# Altium footprint library atmel.PCBLIB: 60 footprints (part 3 of 4)
Each footprint in its own frame and in the unit in brackets; x right, y up, seen from the top. Pads: shape width x height; smd on the part's side, far side on the other; paste and mask are expansions set on the pad; w line width, h text height; cw(c..) or ccw(c..) is an arc to the next point about the centre after c.
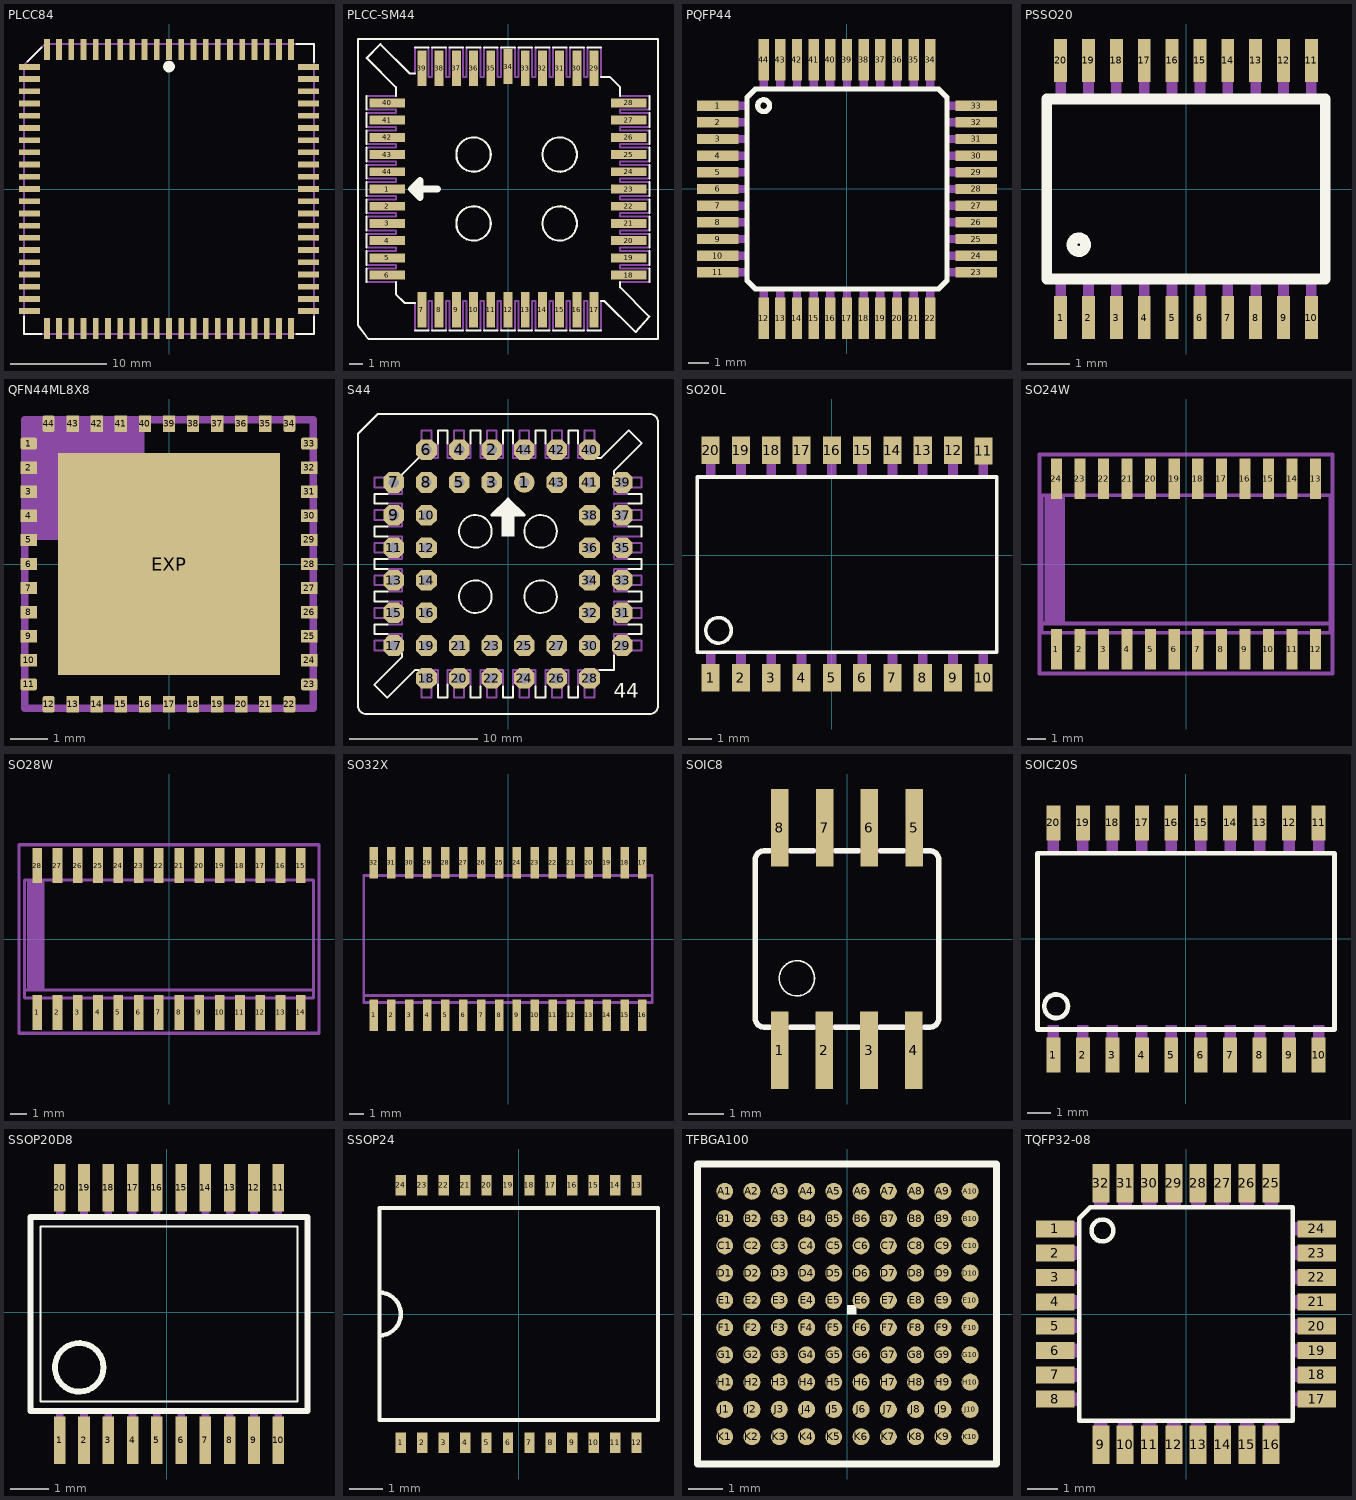
[diagram p2: the footprints below, top view; thin cyan lines are the x and y axes]

## PLCC84 [mm]
pads (84):
  rect 0.6x2.2 smd: 1(0,14.5) 2(-1.27,14.5) 3(-2.54,14.5) 4(-3.81,14.5) 5(-5.08,14.5) 6(-6.35,14.5) 7(-7.62,14.5) 8(-8.89,14.5) 9(-10.16,14.5) 10(-11.43,14.5) 11(-12.7,14.5) 33(-12.7,-14.5) 34(-11.43,-14.5) 35(-10.16,-14.5) 36(-8.89,-14.5) 37(-7.62,-14.5) 38(-6.35,-14.5) 39(-5.08,-14.5) 40(-3.81,-14.5) 41(-2.54,-14.5) 42(-1.27,-14.5) 43(0,-14.5) 44(1.27,-14.5) 45(2.54,-14.5) 46(3.81,-14.5) 47(5.08,-14.5) 48(6.35,-14.5) 49(7.62,-14.5) 50(8.89,-14.5) 51(10.16,-14.5) 52(11.43,-14.5) 53(12.7,-14.5) 75(12.7,14.5) 76(11.43,14.5) 77(10.16,14.5) 78(8.89,14.5) 79(7.62,14.5) 80(6.35,14.5) 81(5.08,14.5) 82(3.81,14.5) 83(2.54,14.5) 84(1.27,14.5)
  rect 2.2x0.6 smd: 12(-14.5,12.7) 13(-14.5,11.43) 14(-14.5,10.16) 15(-14.5,8.89) 16(-14.5,7.62) 17(-14.5,6.35) 18(-14.5,5.08) 19(-14.5,3.81) 20(-14.5,2.54) 21(-14.5,1.27) 22(-14.5,0) 23(-14.5,-1.27) 24(-14.5,-2.54) 25(-14.5,-3.81) 26(-14.5,-5.08) 27(-14.5,-6.35) 28(-14.5,-7.62) 29(-14.5,-8.89) 30(-14.5,-10.16) 31(-14.5,-11.43) 32(-14.5,-12.7) 54(14.5,-12.7) 55(14.5,-11.43) 56(14.5,-10.16) 57(14.5,-8.89) 58(14.5,-7.62) 59(14.5,-6.35) 60(14.5,-5.08) 61(14.5,-3.81) 62(14.5,-2.54) 63(14.5,-1.27) 64(14.5,0) 65(14.5,1.27) 66(14.5,2.54) 67(14.5,3.81) 68(14.5,5.08) 69(14.5,6.35) 70(14.5,7.62) 71(14.5,8.89) 72(14.5,10.16) 73(14.5,11.43) 74(14.5,12.7)
Top Overlay:
  circle w0.61: c0,12.73 r0.3
  lines w0.203: -15.088,-13.233 -15.088,-15.088 -13.259,-15.088 ; -14.732,13.233 -13.233,14.732 ; 13.233,-15.088 15.088,-15.088 15.088,-13.233 ; 13.233,15.088 15.088,15.088 15.088,13.208
Mechanical 16:
  rectangle: -0.26,15.15 0.26,15.6
  rectangle: -1.53,15.15 -1.01,15.6
  rectangle: -2.8,15.15 -2.28,15.6
  rectangle: -4.07,15.15 -3.55,15.6
  rectangle: -5.34,15.15 -4.82,15.6
  rectangle: -6.61,15.15 -6.09,15.6
  rectangle: -7.88,15.15 -7.36,15.6
  rectangle: -9.15,15.15 -8.63,15.6
  rectangle: -10.42,15.15 -9.9,15.6
  rectangle: -11.69,15.15 -11.17,15.6
  rectangle: -12.96,15.15 -12.44,15.6
  rectangle: -15.6,12.44 -15.15,12.96
  rectangle: -15.6,11.17 -15.15,11.69
  rectangle: -15.6,9.9 -15.15,10.42
  rectangle: -15.6,8.63 -15.15,9.15
  rectangle: -15.6,7.36 -15.15,7.88
  rectangle: -15.6,6.09 -15.15,6.61
  rectangle: -15.6,4.82 -15.15,5.34
  rectangle: -15.6,3.55 -15.15,4.07
  rectangle: -15.6,2.28 -15.15,2.8
  rectangle: -15.6,1.01 -15.15,1.53
  rectangle: -15.6,-0.26 -15.15,0.26
  rectangle: -15.6,-1.53 -15.15,-1.01
  rectangle: -15.6,-2.8 -15.15,-2.28
  rectangle: -15.6,-4.07 -15.15,-3.55
  rectangle: -15.6,-5.34 -15.15,-4.82
  rectangle: -15.6,-6.61 -15.15,-6.09
  rectangle: -15.6,-7.88 -15.15,-7.36
  rectangle: -15.6,-9.15 -15.15,-8.63
  rectangle: -15.6,-10.42 -15.15,-9.9
  rectangle: -15.6,-11.69 -15.15,-11.17
  rectangle: -15.6,-12.96 -15.15,-12.44
  rectangle: -12.96,-15.6 -12.44,-15.15
  rectangle: -11.69,-15.6 -11.17,-15.15
  rectangle: -10.42,-15.6 -9.9,-15.15
  rectangle: -9.15,-15.6 -8.63,-15.15
  rectangle: -7.88,-15.6 -7.36,-15.15
  rectangle: -6.61,-15.6 -6.09,-15.15
  rectangle: -5.34,-15.6 -4.82,-15.15
  rectangle: -4.07,-15.6 -3.55,-15.15
  rectangle: -2.8,-15.6 -2.28,-15.15
  rectangle: -1.53,-15.6 -1.01,-15.15
  rectangle: -0.26,-15.6 0.26,-15.15
  rectangle: 1.01,-15.6 1.53,-15.15
  rectangle: 2.28,-15.6 2.8,-15.15
  rectangle: 3.55,-15.6 4.07,-15.15
  rectangle: 4.82,-15.6 5.34,-15.15
  rectangle: 6.09,-15.6 6.61,-15.15
  rectangle: 7.36,-15.6 7.88,-15.15
  rectangle: 8.63,-15.6 9.15,-15.15
  rectangle: 9.9,-15.6 10.42,-15.15
  rectangle: 11.17,-15.6 11.69,-15.15
  rectangle: 12.44,-15.6 12.96,-15.15
  rectangle: 15.15,-12.96 15.6,-12.44
  rectangle: 15.15,-11.69 15.6,-11.17
  rectangle: 15.15,-10.42 15.6,-9.9
  rectangle: 15.15,-9.15 15.6,-8.63
  rectangle: 15.15,-7.88 15.6,-7.36
  rectangle: 15.15,-6.61 15.6,-6.09
  rectangle: 15.15,-5.34 15.6,-4.82
  rectangle: 15.15,-4.07 15.6,-3.55
  rectangle: 15.15,-2.8 15.6,-2.28
  rectangle: 15.15,-1.53 15.6,-1.01
  rectangle: 15.15,-0.26 15.6,0.26
  rectangle: 15.15,1.01 15.6,1.53
  rectangle: 15.15,2.28 15.6,2.8
  rectangle: 15.15,3.55 15.6,4.07
  rectangle: 15.15,4.82 15.6,5.34
  rectangle: 15.15,6.09 15.6,6.61
  rectangle: 15.15,7.36 15.6,7.88
  rectangle: 15.15,8.63 15.6,9.15
  rectangle: 15.15,9.9 15.6,10.42
  rectangle: 15.15,11.17 15.6,11.69
  rectangle: 15.15,12.44 15.6,12.96
  rectangle: 12.44,15.15 12.96,15.6
  rectangle: 11.17,15.15 11.69,15.6
  rectangle: 9.9,15.15 10.42,15.6
  rectangle: 8.63,15.15 9.15,15.6
  rectangle: 7.36,15.15 7.88,15.6
  rectangle: 6.09,15.15 6.61,15.6
  rectangle: 4.82,15.15 5.34,15.6
  rectangle: 3.55,15.15 4.07,15.6
  rectangle: 2.28,15.15 2.8,15.6
  rectangle: 1.01,15.15 1.53,15.6
  lines w0.203: -15.1,-15.1 -15.1,12.865 -12.865,15.1 15.1,15.1 15.1,-15.1 -15.1,-15.1

## PLCC-SM44 [mil]
pads (44):
  rect 102x26 smd: 1(-350,0) 2(-350,-50) 3(-350,-100) 4(-350,-150) 5(-350,-200) 6(-350,-250) 18(350,-250) 19(350,-200) 20(350,-150) 21(350,-100) 22(350,-50) 23(350,0) 24(350,50) 25(350,100) 26(350,150) 27(350,200) 28(350,250) 40(-350,250) 41(-350,200) 42(-350,150) 43(-350,100) 44(-350,50)
  rect 26x102 smd: 7(-250,-350) 8(-200,-350) 9(-150,-350) 10(-100,-350) 11(-50,-350) 12(0,-350) 13(50,-350) 14(100,-350) 15(150,-350) 16(200,-350) 17(250,-350) 29(250,350) 30(200,350) 31(150,350) 32(100,350) 33(50,350) 34(0,355) 35(-50,350) 36(-100,350) 37(-150,350) 38(-200,350) 39(-250,350)
Top Overlay:
  circle w6: c-100,-100 r50
  circle w6: c-100,100 r50
  circle w6: c150,-100 r50
  circle w6: c150,100 r50
  lines w6: -410,-270 -410,-230 ; -410,-220 -410,-180 ; -410,-170 -410,-130 ; -410,-120 -410,-80 ; -410,-70 -410,-30 ; -410,-20 -410,20 ; -410,30 -410,70 ; -410,80 -410,120 ; -410,130 -410,170 ; -410,180 -410,220 ; -410,230 -410,270 ; -325,-270 -325,-305 -300,-330 -270,-330 ; -325,270 -325,295 -410,380 -370,420 -285,335 -270,335 ; -270,-410 -230,-410 ; -270,410 -230,410 ; -220,-410 -180,-410 ; -220,410 -180,410 ; -170,-410 -130,-410 ; -170,410 -130,410 ; -120,-410 -80,-410 ; -120,410 -80,410 ; -70,-410 -30,-410 ; -70,410 -30,410 ; -20,-410 20,-410 ; -20,410 20,410 ; 30,-410 70,-410 ; 30,410 70,410 ; 80,-410 120,-410 ; 80,410 120,410 ; 130,-410 170,-410 ; 130,410 170,410 ; 180,-410 220,-410 ; 180,410 220,410 ; 230,-410 270,-410 ; 230,410 270,410 ; 270,-325 280,-325 370,-415 410,-370 325,-285 325,-270 ; 270,325 295,325 325,295 325,270 ; 410,-270 410,-230 ; 410,-220 410,-180 ; 410,-170 410,-130 ; 410,-120 410,-80 ; 410,-70 410,-30 ; 410,-20 410,20 ; 410,30 410,70 ; 410,80 410,120 ; 410,130 410,170 ; 410,180 410,220 ; 410,230 410,270 ; -435,-395 -435,435 435,435 435,-435 -405,-435 -435,-395
  lines w20: -205,0 -280,0 ; -280,0 -255,25 -255,-25 -280,0
Mechanical 16:
  lines w6: -410,-270 -325,-270 ; -410,-230 -325,-230 -325,-220 -410,-220 ; -410,-180 -325,-180 -325,-170 -410,-170 ; -410,-130 -325,-130 -325,-120 -410,-120 ; -410,-80 -325,-80 -325,-70 -410,-70 ; -410,-30 -325,-30 -325,-20 -410,-20 ; -410,20 -325,20 -325,30 -410,30 ; -410,70 -325,70 -325,80 -410,80 ; -410,120 -325,120 -325,130 -410,130 ; -410,170 -325,170 -325,180 -410,180 ; -410,220 -325,220 -325,230 -410,230 ; -410,270 -325,270 ; -270,-410 -270,-330 ; -270,335 -270,410 ; -230,-410 -230,-325 -220,-325 -220,-410 ; -230,410 -230,325 -220,325 -220,410 ; -180,-410 -180,-325 -170,-325 -170,-410 ; -180,410 -180,325 -170,325 -170,410 ; -130,-410 -130,-325 -120,-325 -120,-410 ; -130,410 -130,325 -120,325 -120,410 ; -80,-410 -80,-325 -70,-325 -70,-410 ; -80,410 -80,325 -70,325 -70,410 ; -30,-410 -30,-325 -20,-325 -20,-410 ; -30,410 -30,325 -20,325 -20,410 ; 20,-410 20,-325 30,-325 30,-410 ; 20,410 20,325 30,325 30,410 ; 70,-410 70,-325 80,-325 80,-410 ; 70,410 70,325 80,325 80,410 ; 120,-410 120,-325 130,-325 130,-410 ; 120,410 120,325 130,325 130,410 ; 170,-410 170,-325 180,-325 180,-410 ; 170,410 170,325 180,325 180,410 ; 220,-410 220,-325 230,-325 230,-410 ; 220,410 220,325 230,325 230,410 ; 270,-410 270,-325 ; 270,325 270,410 ; 325,-270 410,-270 ; 325,270 410,270 ; 410,-230 325,-230 325,-220 410,-220 ; 410,-180 325,-180 325,-170 410,-170 ; 410,-130 325,-130 325,-120 410,-120 ; 410,-80 325,-80 325,-70 410,-70 ; 410,-30 325,-30 325,-20 410,-20 ; 410,20 325,20 325,30 410,30 ; 410,70 325,70 325,80 410,80 ; 410,120 325,120 325,130 410,130 ; 410,170 325,170 325,180 410,180 ; 410,220 325,220 325,230 410,230

## PQFP44 [mm]
pads (44):
  rect 2x0.5 smd: 1(-6.2,4) 2(-6.2,3.2) 3(-6.2,2.4) 4(-6.2,1.6) 5(-6.2,0.8) 6(-6.2,0) 7(-6.2,-0.8) 8(-6.2,-1.6) 9(-6.2,-2.4) 10(-6.2,-3.2) 11(-6.2,-4) 23(6.2,-4) 24(6.2,-3.2) 25(6.2,-2.4) 26(6.2,-1.6) 27(6.2,-0.8) 28(6.2,0) 29(6.2,0.8) 30(6.2,1.6) 31(6.2,2.4) 32(6.2,3.2) 33(6.2,4)
  rect 0.5x2 smd: 12(-4,-6.2) 13(-3.2,-6.2) 14(-2.4,-6.2) 15(-1.6,-6.2) 16(-0.8,-6.2) 17(0,-6.2) 18(0.8,-6.2) 19(1.6,-6.2) 20(2.4,-6.2) 21(3.2,-6.2) 22(4,-6.2) 34(4,6.2) 35(3.2,6.2) 36(2.4,6.2) 37(1.6,6.2) 38(0.8,6.2) 39(0,6.2) 40(-0.8,6.2) 41(-1.6,6.2) 42(-2.4,6.2) 43(-3.2,6.2) 44(-4,6.2)
Top Overlay:
  circle w0.254: c-4,4 r0.283
  lines w0.254: -4.8,-4.4 -4.4,-4.8 4.4,-4.8 4.8,-4.4 4.8,4.4 4.4,4.8 -4.4,4.8 -4.8,4.4 -4.8,-4.4
Mechanical 16:
  rectangle: -6.7,3.8 -4.9,4.2
  rectangle: -6.7,3 -4.9,3.4
  rectangle: -6.7,2.2 -4.9,2.6
  rectangle: -6.7,1.4 -4.9,1.8
  rectangle: -6.7,0.6 -4.9,1
  rectangle: -6.7,-0.2 -4.9,0.2
  rectangle: -6.7,-1 -4.9,-0.6
  rectangle: -6.7,-1.8 -4.9,-1.4
  rectangle: -6.7,-2.6 -4.9,-2.2
  rectangle: -6.7,-3.4 -4.9,-3
  rectangle: -6.7,-4.2 -4.9,-3.8
  rectangle: -4.2,-6.7 -3.8,-4.9
  rectangle: -3.4,-6.7 -3,-4.9
  rectangle: -2.6,-6.7 -2.2,-4.9
  rectangle: -1.8,-6.7 -1.4,-4.9
  rectangle: -1,-6.7 -0.6,-4.9
  rectangle: -0.2,-6.7 0.2,-4.9
  rectangle: 0.6,-6.7 1,-4.9
  rectangle: 1.4,-6.7 1.8,-4.9
  rectangle: 2.2,-6.7 2.6,-4.9
  rectangle: 3,-6.7 3.4,-4.9
  rectangle: 3.8,-6.7 4.2,-4.9
  rectangle: 4.9,-4.2 6.7,-3.8
  rectangle: 4.9,-3.4 6.7,-3
  rectangle: 4.9,-2.6 6.7,-2.2
  rectangle: 4.9,-1.8 6.7,-1.4
  rectangle: 4.9,-1 6.7,-0.6
  rectangle: 4.9,-0.2 6.7,0.2
  rectangle: 4.9,0.6 6.7,1
  rectangle: 4.9,1.4 6.7,1.8
  rectangle: 4.9,2.2 6.7,2.6
  rectangle: 4.9,3 6.7,3.4
  rectangle: 4.9,3.8 6.7,4.2
  rectangle: 3.8,4.9 4.2,6.7
  rectangle: 3,4.9 3.4,6.7
  rectangle: 2.2,4.9 2.6,6.7
  rectangle: 1.4,4.9 1.8,6.7
  rectangle: 0.6,4.9 1,6.7
  rectangle: -0.2,4.9 0.2,6.7
  rectangle: -1,4.9 -0.6,6.7
  rectangle: -1.8,4.9 -1.4,6.7
  rectangle: -2.6,4.9 -2.2,6.7
  rectangle: -3.4,4.9 -3,6.7
  rectangle: -4.2,4.9 -3.8,6.7
  text "PQFP-44" at -2.785,-3.985 h0.94

## PSSO20 [mm]
pads (20):
  rect 0.3x1 smd: 1(-2.925,-3) 2(-2.275,-3) 3(-1.625,-3) 4(-0.975,-3) 5(-0.325,-3) 6(0.325,-3) 7(0.975,-3) 8(1.625,-3) 9(2.275,-3) 10(2.925,-3) 11(2.925,3) 12(2.275,3) 13(1.625,3) 14(0.975,3) 15(0.325,3) 16(-0.325,3) 17(-0.975,3) 18(-1.625,3) 19(-2.275,3) 20(-2.925,3)
Top Overlay:
  circle w0.254: c-2.5,-1.3 r0.158
  lines w0.254: -3.25,-2.1 -3.25,2.1 3.25,2.1 3.25,-2.1 -3.25,-2.1
Mechanical 16:
  rectangle: -3.05,-3.25 -2.8,-2.15
  rectangle: -2.4,-3.25 -2.15,-2.15
  rectangle: -1.75,-3.25 -1.5,-2.15
  rectangle: -1.1,-3.25 -0.85,-2.15
  rectangle: -0.45,-3.25 -0.2,-2.15
  rectangle: 0.2,-3.25 0.45,-2.15
  rectangle: 0.85,-3.25 1.1,-2.15
  rectangle: 1.5,-3.25 1.75,-2.15
  rectangle: 2.15,-3.25 2.4,-2.15
  rectangle: 2.8,-3.25 3.05,-2.15
  rectangle: 2.8,2.15 3.05,3.25
  rectangle: 2.15,2.15 2.4,3.25
  rectangle: 1.5,2.15 1.75,3.25
  rectangle: 0.85,2.15 1.1,3.25
  rectangle: 0.2,2.15 0.45,3.25
  rectangle: -0.45,2.15 -0.2,3.25
  rectangle: -1.1,2.15 -0.85,3.25
  rectangle: -1.75,2.15 -1.5,3.25
  rectangle: -2.4,2.15 -2.15,3.25
  rectangle: -3.05,2.15 -2.8,3.25

## QFN44ML8X8 [mm]
pads (45):
  rrect40% 0.45x0.33 smd: 1(-3.787,3.25) 11(-3.787,-3.25) 23(3.787,-3.25) 33(3.787,3.25)
  rect 0.45x0.33 smd: 2(-3.787,2.6) 3(-3.787,1.95) 4(-3.787,1.3) 5(-3.787,0.65) 6(-3.787,0) 7(-3.787,-0.65) 8(-3.787,-1.3) 9(-3.787,-1.95) 10(-3.787,-2.6) 24(3.787,-2.6) 25(3.787,-1.95) 26(3.787,-1.3) 27(3.787,-0.65) 28(3.787,0) 29(3.787,0.65) 30(3.787,1.3) 31(3.787,1.95) 32(3.787,2.6)
  rrect40% 0.33x0.45 smd: 12(-3.25,-3.787) 22(3.25,-3.787) 34(3.25,3.787) 44(-3.25,3.787)
  rect 0.33x0.45 smd: 13(-2.6,-3.787) 14(-1.95,-3.787) 15(-1.3,-3.787) 16(-0.65,-3.787) 17(0,-3.787) 18(0.65,-3.787) 19(1.3,-3.787) 20(1.95,-3.787) 21(2.6,-3.787) 35(2.6,3.787) 36(1.95,3.787) 37(1.3,3.787) 38(0.65,3.787) 39(0,3.787) 40(-0.65,3.787) 41(-1.3,3.787) 42(-1.95,3.787) 43(-2.6,3.787)
  rect 6x6 smd: EXP(0,0)
Top Solder:
  rectangle: -4.05,3.05 -3.525,3.45
  rectangle: -4.05,2.4 -3.525,2.8
  rectangle: -4.05,1.75 -3.525,2.15
  rectangle: -4.05,1.1 -3.525,1.5
  rectangle: -4.05,0.45 -3.525,0.85
  rectangle: -4.05,-0.2 -3.525,0.2
  rectangle: -4.05,-0.85 -3.525,-0.45
  rectangle: -4.05,-1.5 -3.525,-1.1
  rectangle: -4.05,-2.15 -3.525,-1.75
  rectangle: -4.05,-2.8 -3.525,-2.4
  rectangle: -4.05,-3.45 -3.525,-3.05
  region: -3.05,-4.05 -3.05,-3.525 -3.45,-3.525 -3.45,-4.05
  region: -2.4,-4.05 -2.4,-3.525 -2.8,-3.525 -2.8,-4.05
  region: -1.75,-4.05 -1.75,-3.525 -2.15,-3.525 -2.15,-4.05
  region: -1.1,-4.05 -1.1,-3.525 -1.5,-3.525 -1.5,-4.05
  region: -0.45,-4.05 -0.45,-3.525 -0.85,-3.525 -0.85,-4.05
  region: 0.2,-4.05 0.2,-3.525 -0.2,-3.525 -0.2,-4.05
  region: 0.85,-4.05 0.85,-3.525 0.45,-3.525 0.45,-4.05
  region: 1.5,-4.05 1.5,-3.525 1.1,-3.525 1.1,-4.05
  region: 2.15,-4.05 2.15,-3.525 1.75,-3.525 1.75,-4.05
  region: 2.8,-4.05 2.8,-3.525 2.4,-3.525 2.4,-4.05
  region: 3.45,-4.05 3.45,-3.525 3.05,-3.525 3.05,-4.05
  region: 4.05,-3.05 3.525,-3.05 3.525,-3.45 4.05,-3.45
  region: 4.05,-2.4 3.525,-2.4 3.525,-2.8 4.05,-2.8
  region: 4.05,-1.75 3.525,-1.75 3.525,-2.15 4.05,-2.15
  region: 4.05,-1.1 3.525,-1.1 3.525,-1.5 4.05,-1.5
  region: 4.05,-0.45 3.525,-0.45 3.525,-0.85 4.05,-0.85
  region: 4.05,0.2 3.525,0.2 3.525,-0.2 4.05,-0.2
  region: 4.05,0.85 3.525,0.85 3.525,0.45 4.05,0.45
  region: 4.05,1.5 3.525,1.5 3.525,1.1 4.05,1.1
  region: 4.05,2.15 3.525,2.15 3.525,1.75 4.05,1.75
  region: 4.05,2.8 3.525,2.8 3.525,2.4 4.05,2.4
  region: 4.05,3.45 3.525,3.45 3.525,3.05 4.05,3.05
  region: 3.05,4.05 3.05,3.525 3.45,3.525 3.45,4.05
  region: 2.4,4.05 2.4,3.525 2.8,3.525 2.8,4.05
  region: 1.75,4.05 1.75,3.525 2.15,3.525 2.15,4.05
  region: 1.1,4.05 1.1,3.525 1.5,3.525 1.5,4.05
  region: 0.45,4.05 0.45,3.525 0.85,3.525 0.85,4.05
  region: -0.2,4.05 -0.2,3.525 0.2,3.525 0.2,4.05
  region: -0.85,4.05 -0.85,3.525 -0.45,3.525 -0.45,4.05
  region: -1.5,4.05 -1.5,3.525 -1.1,3.525 -1.1,4.05
  region: -2.15,4.05 -2.15,3.525 -1.75,3.525 -1.75,4.05
  region: -2.8,4.05 -2.8,3.525 -2.4,3.525 -2.4,4.05
  region: -3.45,4.05 -3.45,3.525 -3.05,3.525 -3.05,4.05
  rectangle: -2.962,-2.962 2.962,2.962
Mechanical 16:
  rectangle: -3.837,0.65 -0.662,3.837
  lines w0.203: -3.9,-3.9 3.9,-3.9 3.9,3.9 -3.9,3.9 -3.9,-3.9

## S44 [mil]
pads (44):
  round 63 hole 32: 1(50,250)
  oct 63x63 hole 32: 2(-50,350) 3(-50,250) 4(-150,350) 5(-150,250) 6(-250,350) 7(-350,250) 8(-250,250) 9(-350,150) 10(-250,150) 11(-350,50) 12(-250,50) 13(-350,-50) 14(-250,-50) 15(-350,-150) 16(-250,-150) 17(-350,-250) 18(-250,-350) 19(-250,-250) 20(-150,-350) 21(-150,-250) 22(-50,-350) 23(-50,-250) 24(50,-350) 25(50,-250) 26(150,-350) 27(150,-250) 28(250,-350) 29(350,-250) 30(250,-250) 31(350,-150) 32(250,-150) 33(350,-50) 34(250,-50) 35(350,50) 36(250,50) 37(350,150) 38(250,150) 39(350,250) 40(250,350) 41(250,250) 42(150,350) 43(150,250) 44(50,350)
Top Overlay:
  circle w6: c-100,100 r50
  circle w6: c100,100 r50
  circle w6: c-100,-100 r50
  circle w6: c100,-100 r50
  rectangle: -20,85 20,160
  rectangle: -35,150 35,165
  rectangle: -25,165 25,175
  rectangle: -15,175 15,185
  rectangle: -5,185 5,195
  rectangle: -45,150 -35,155
  rectangle: -40,155 -35,160
  rectangle: -30,165 -25,170
  rectangle: -20,175 -15,180
  rectangle: -10,185 -5,190
  rectangle: 5,185 10,190
  rectangle: 15,175 20,180
  rectangle: 25,165 30,170
  rectangle: 35,150 45,155
  rectangle: 35,155 40,160
  lines w6: -370,-215 -410,-215 -410,-185 -370,-185 ; -370,-115 -410,-115 -410,-85 -370,-85 ; -370,-15 -410,-15 -410,15 -370,15 ; -370,85 -410,85 -410,115 -370,115 ; -370,185 -410,185 -410,215 -370,215 ; -325,-275 -325,-285 -410,-370 -370,-410 -285,-325 -275,-325 ; -325,275 -275,325 ; -215,-370 -215,-410 -185,-410 -185,-370 ; -215,370 -215,410 -185,410 -185,370 ; -115,-375 -115,-410 -85,-410 -85,-375 ; -115,370 -115,410 -85,410 -85,370 ; -15,-375 -15,-410 15,-410 15,-375 ; -15,370 -15,410 15,410 15,370 ; 85,-375 85,-410 115,-410 115,-375 ; 85,370 85,410 115,410 115,370 ; 185,-375 185,-410 215,-410 215,-375 ; 185,370 185,410 215,410 215,370 ; 275,325 285,325 370,410 410,370 325,285 325,275 ; 280,-325 325,-325 325,-280 ; 370,-215 410,-215 410,-185 370,-185 ; 370,-115 410,-115 410,-85 370,-85 ; 370,-15 410,-15 410,15 370,15 ; 370,115 410,115 410,85 ; 370,185 410,185 410,215 370,215 ; -460,-435 -460,400 -400,460 435,460 cw(c435,435) 460,435 460,-435 cw(c435,-435) 435,-460 -435,-460 cw(c-435,-435) -460,-435
  lines w8: -50,150 50,150 0,200 -50,150
  text "44" at 325,-425 h77.5
Mechanical 16:
  drawing of 160 lines, arcs and shapes, not listed

## SO20L [mil]
pads (20):
  rect 30x45 smd: 1(-200,-202) 2(-150,-202) 3(-100,-202) 4(-50,-202) 5(0,-202) 6(50,-202) 7(100,-202) 8(150,-202) 9(200,-202) 10(250,-202) 11(250,172) 12(200,173) 13(150,173) 14(100,173) 15(50,173) 16(0,173) 17(-50,173) 18(-100,173) 19(-150,173) 20(-200,173)
Top Overlay:
  circle w6: c-187,-124 r21
  lines w6: -222.01,-160 272.01,-160 272.01,129.02 -222.01,129.02 -222.01,-160
Mechanical 16:
  rectangle: 242,131 258,183
  rectangle: 192,131 208,183
  rectangle: 142,131 158,183
  rectangle: 92,131 108,183
  rectangle: 42,131 58,183
  rectangle: -8,131 8,183
  rectangle: -58,131 -42,183
  rectangle: -108,131 -92,183
  rectangle: -158,131 -142,183
  rectangle: -208,131 -192,183
  rectangle: 242,-214 258,-162
  rectangle: 192,-214 208,-162
  rectangle: 142,-214 158,-162
  rectangle: 92,-214 108,-162
  rectangle: 42,-214 58,-162
  rectangle: -8,-214 8,-162
  rectangle: -58,-214 -42,-162
  rectangle: -108,-214 -92,-162
  rectangle: -158,-214 -142,-162
  rectangle: -208,-214 -192,-162

## SO24W [mm]
pads (24):
  rect 0.6x2.2 smd: 1(-6.985,-4.6) 2(-5.715,-4.6) 3(-4.445,-4.6) 4(-3.175,-4.6) 5(-1.905,-4.6) 6(-0.635,-4.6) 7(0.635,-4.6) 8(1.905,-4.6) 9(3.175,-4.6) 10(4.445,-4.6) 11(5.715,-4.6) 12(6.985,-4.6) 13(6.985,4.6) 14(5.715,4.6) 15(4.445,4.6) 16(3.175,4.6) 17(1.905,4.6) 18(0.635,4.6) 19(-0.635,4.6) 20(-1.905,4.6) 21(-3.175,4.6) 22(-4.445,4.6) 23(-5.715,4.6) 24(-6.985,4.6)
Mechanical 16:
  rectangle: -7.23,-5.32 -6.74,-3.8
  rectangle: -5.96,-5.32 -5.47,-3.8
  rectangle: -4.69,-5.32 -4.2,-3.8
  rectangle: -3.42,-5.32 -2.93,-3.8
  rectangle: -2.15,-5.32 -1.66,-3.8
  rectangle: -0.88,-5.32 -0.39,-3.8
  rectangle: 0.39,-5.32 0.88,-3.8
  rectangle: 1.66,-5.32 2.15,-3.8
  rectangle: 2.93,-5.32 3.42,-3.8
  rectangle: 4.2,-5.32 4.69,-3.8
  rectangle: 5.47,-5.32 5.96,-3.8
  rectangle: 6.74,-5.32 7.23,-3.8
  rectangle: 6.74,3.8 7.23,5.32
  rectangle: 5.47,3.8 5.96,5.32
  rectangle: 4.2,3.8 4.69,5.32
  rectangle: 2.93,3.8 3.42,5.32
  rectangle: 1.66,3.8 2.15,5.32
  rectangle: 0.39,3.8 0.88,5.32
  rectangle: -0.88,3.8 -0.39,5.32
  rectangle: -2.15,3.8 -1.66,5.32
  rectangle: -3.42,3.8 -2.93,5.32
  rectangle: -4.69,3.8 -4.2,5.32
  rectangle: -5.96,3.8 -5.47,5.32
  rectangle: -7.23,3.8 -6.74,5.32
  rectangle: -7.63,-3.2 -6.53,3.6
  lines w0.203: -7.78,-3.2 -7.78,-3.7 7.78,-3.7 7.78,-3.2 ; -7.78,-3.2 -7.78,3.7 7.78,3.7 7.78,-3.2 ; -7.78,-3.2 7.78,-3.2
Mechanical 27:
  lines w0.2: -7.895,-5.9 7.895,-5.9 7.895,5.9 -7.895,5.9 -7.895,-5.9

## SO28W [mm]
pads (28):
  rect 0.6x2.2 smd: 1(-8.255,-4.6) 2(-6.985,-4.6) 3(-5.715,-4.6) 4(-4.445,-4.6) 5(-3.175,-4.6) 6(-1.905,-4.6) 7(-0.635,-4.6) 8(0.635,-4.6) 9(1.905,-4.6) 10(3.175,-4.6) 11(4.445,-4.6) 12(5.715,-4.6) 13(6.985,-4.6) 14(8.255,-4.6) 15(8.255,4.6) 16(6.985,4.6) 17(5.715,4.6) 18(4.445,4.6) 19(3.175,4.6) 20(1.905,4.6) 21(0.635,4.6) 22(-0.635,4.6) 23(-1.905,4.6) 24(-3.175,4.6) 25(-4.445,4.6) 26(-5.715,4.6) 27(-6.985,4.6) 28(-8.255,4.6)
Mechanical 16:
  rectangle: -8.5,-5.32 -8.01,-3.8
  rectangle: -7.23,-5.32 -6.74,-3.8
  rectangle: -5.96,-5.32 -5.47,-3.8
  rectangle: -4.69,-5.32 -4.2,-3.8
  rectangle: -3.42,-5.32 -2.93,-3.8
  rectangle: -2.15,-5.32 -1.66,-3.8
  rectangle: -0.88,-5.32 -0.39,-3.8
  rectangle: 0.39,-5.32 0.88,-3.8
  rectangle: 1.66,-5.32 2.15,-3.8
  rectangle: 2.93,-5.32 3.42,-3.8
  rectangle: 4.2,-5.32 4.69,-3.8
  rectangle: 5.47,-5.32 5.96,-3.8
  rectangle: 6.74,-5.32 7.23,-3.8
  rectangle: 8.01,-5.32 8.5,-3.8
  rectangle: 8.01,3.8 8.5,5.32
  rectangle: 6.74,3.8 7.23,5.32
  rectangle: 5.47,3.8 5.96,5.32
  rectangle: 4.2,3.8 4.69,5.32
  rectangle: 2.93,3.8 3.42,5.32
  rectangle: 1.66,3.8 2.15,5.32
  rectangle: 0.39,3.8 0.88,5.32
  rectangle: -0.88,3.8 -0.39,5.32
  rectangle: -2.15,3.8 -1.66,5.32
  rectangle: -3.42,3.8 -2.93,5.32
  rectangle: -4.69,3.8 -4.2,5.32
  rectangle: -5.96,3.8 -5.47,5.32
  rectangle: -7.23,3.8 -6.74,5.32
  rectangle: -8.5,3.8 -8.01,5.32
  rectangle: -8.9,-3.2 -7.8,3.6
  lines w0.203: -9.05,-3.2 -9.05,-3.7 9.05,-3.7 9.05,-3.2 ; -9.05,-3.2 -9.05,3.7 9.05,3.7 9.05,-3.2 ; -9.05,-3.2 9.05,-3.2
Mechanical 27:
  lines w0.2: -9.395,-5.9 9.395,-5.9 9.395,5.9 -9.395,5.9 -9.395,-5.9

## SO32X [mm]
pads (32):
  rect 0.6x2.2 smd: 1(-9.525,-5.4) 2(-8.255,-5.4) 3(-6.985,-5.4) 4(-5.715,-5.4) 5(-4.445,-5.4) 6(-3.175,-5.4) 7(-1.905,-5.4) 8(-0.635,-5.4) 9(0.635,-5.4) 10(1.905,-5.4) 11(3.175,-5.4) 12(4.445,-5.4) 13(5.715,-5.4) 14(6.985,-5.4) 15(8.255,-5.4) 16(9.525,-5.4) 17(9.525,5.4) 18(8.255,5.4) 19(6.985,5.4) 20(5.715,5.4) 21(4.445,5.4) 22(3.175,5.4) 23(1.905,5.4) 24(0.635,5.4) 25(-0.635,5.4) 26(-1.905,5.4) 27(-3.175,5.4) 28(-4.445,5.4) 29(-5.715,5.4) 30(-6.985,5.4) 31(-8.255,5.4) 32(-9.525,5.4)
Mechanical 16:
  rectangle: -9.77,-6.12 -9.28,-4.6
  rectangle: -8.5,-6.12 -8.01,-4.6
  rectangle: -7.23,-6.12 -6.74,-4.6
  rectangle: -5.96,-6.12 -5.47,-4.6
  rectangle: -4.69,-6.12 -4.2,-4.6
  rectangle: -3.42,-6.12 -2.93,-4.6
  rectangle: -2.15,-6.12 -1.66,-4.6
  rectangle: -0.88,-6.12 -0.39,-4.6
  rectangle: 0.39,-6.12 0.88,-4.6
  rectangle: 1.66,-6.12 2.15,-4.6
  rectangle: 2.93,-6.12 3.42,-4.6
  rectangle: 4.2,-6.12 4.69,-4.6
  rectangle: 5.47,-6.12 5.96,-4.6
  rectangle: 6.74,-6.12 7.23,-4.6
  rectangle: 8.01,-6.12 8.5,-4.6
  rectangle: 9.28,-6.12 9.77,-4.6
  rectangle: 9.28,4.6 9.77,6.12
  rectangle: 8.01,4.6 8.5,6.12
  rectangle: 6.74,4.6 7.23,6.12
  rectangle: 5.47,4.6 5.96,6.12
  rectangle: 4.2,4.6 4.69,6.12
  rectangle: 2.93,4.6 3.42,6.12
  rectangle: 1.66,4.6 2.15,6.12
  rectangle: 0.39,4.6 0.88,6.12
  rectangle: -0.88,4.6 -0.39,6.12
  rectangle: -2.15,4.6 -1.66,6.12
  rectangle: -3.42,4.6 -2.93,6.12
  rectangle: -4.69,4.6 -4.2,6.12
  rectangle: -5.96,4.6 -5.47,6.12
  rectangle: -7.23,4.6 -6.74,6.12
  rectangle: -8.5,4.6 -8.01,6.12
  rectangle: -9.77,4.6 -9.28,6.12
  lines w0.203: -10.22,-4 -10.22,-4.5 10.22,-4.5 10.22,-4 ; -10.22,-4 -10.22,4.5 10.22,4.5 10.22,-4 ; -10.22,-4 10.22,-4

## SOIC8 [mm]
pads (8):
  rect 0.5x2.2 smd: 1(-1.905,-3.154) 2(-0.645,-3.154) 3(0.625,-3.154) 4(1.895,-3.154) 5(1.905,3.154) 6(0.635,3.154) 7(-0.635,3.154) 8(-1.905,3.154)
Top Overlay:
  circle w0.051: c-1.42,-1.115 r0.5
  lines w0.152: -2.6,-2.25 ccw(c-2.35,-2.25) -2.35,-2.5 ; -2.6,-2.24 -2.6,2.25 cw(c-2.35,2.25) -2.35,2.5 ; -2.34,-2.5 -2.21,-2.5 ; -2.34,2.5 -2.21,2.5 ; -1.59,-2.5 -0.95,-2.5 ; -1.59,2.5 -0.95,2.5 ; -0.33,-2.5 0.32,-2.5 ; -0.32,2.5 0.32,2.5 ; 0.94,-2.5 1.59,-2.5 ; 0.95,2.5 1.59,2.5 ; 2.2,-2.5 2.33,-2.5 ; 2.21,2.5 2.36,2.5 ; 2.35,-2.5 ccw(c2.35,-2.25) 2.6,-2.25 2.6,2.25 ccw(c2.35,2.25) 2.35,2.5
Mechanical 16:
  rectangle: -2.08,2.5 -1.73,3.4
  rectangle: -0.81,2.5 -0.46,3.4
  rectangle: 0.46,2.5 0.81,3.4
  rectangle: 1.73,2.5 2.08,3.4
  rectangle: 1.72,-3.4 2.07,-2.5
  rectangle: 0.45,-3.4 0.8,-2.5
  rectangle: -0.82,-3.4 -0.47,-2.5
  rectangle: -2.08,-3.4 -1.73,-2.5
  lines w0.152: -2.34,-2.5 2.36,-2.5 ; -2.34,2.5 2.36,2.5

## SOIC20S [mm]
pads (20):
  rect 0.6x1.5 smd: 1(-5.715,-5) 2(-4.445,-5) 3(-3.175,-5) 4(-1.905,-5) 5(-0.635,-5) 6(0.635,-5) 7(1.905,-5) 8(3.175,-5) 9(4.445,-5) 10(5.715,-5) 11(5.715,5) 12(4.445,5) 13(3.175,5) 14(1.905,5) 15(0.635,5) 16(-0.635,5) 17(-1.905,5) 18(-3.175,5) 19(-4.445,5) 20(-5.715,5)
Top Overlay:
  circle w0.203: c-5.6,-2.9 r0.51
  lines w0.203: -6.4,-3.9 6.4,-3.9 6.4,3.7 -6.4,3.7 -6.4,-3.9
Mechanical 16:
  rectangle: -5.965,-5.3 -5.465,-3.7
  rectangle: -4.695,-5.3 -4.195,-3.7
  rectangle: -3.425,-5.3 -2.925,-3.7
  rectangle: -2.155,-5.3 -1.655,-3.7
  rectangle: -0.885,-5.3 -0.385,-3.7
  rectangle: 0.385,-5.3 0.885,-3.7
  rectangle: 1.655,-5.3 2.155,-3.7
  rectangle: 2.925,-5.3 3.425,-3.7
  rectangle: 4.195,-5.3 4.695,-3.7
  rectangle: 5.465,-5.3 5.965,-3.7
  rectangle: 5.465,3.7 5.965,5.3
  rectangle: 4.195,3.7 4.695,5.3
  rectangle: 2.925,3.7 3.425,5.3
  rectangle: 1.655,3.7 2.155,5.3
  rectangle: 0.385,3.7 0.885,5.3
  rectangle: -0.885,3.7 -0.385,5.3
  rectangle: -2.155,3.7 -1.655,5.3
  rectangle: -3.425,3.7 -2.925,5.3
  rectangle: -4.695,3.7 -4.195,5.3
  rectangle: -5.965,3.7 -5.465,5.3

## SSOP20D8 [mil]
pads (20):
  rect 12x49 smd: 1(-110,-132) 2(-85,-132) 3(-60,-132) 4(-35,-132) 5(-10,-132) 6(15,-132) 7(40,-132) 8(65,-132) 9(90,-132) 10(115,-132) 11(115,128) 12(90,128) 13(65,128) 14(40,128) 15(15,128) 16(-10,128) 17(-35,128) 18(-60,128) 19(-85,128) 20(-110,128)
Top Overlay:
  circle w6: c-90,-57 r25
  lines w2: -130,-92.01 135,-92.01 135,87.99 -130,87.99 -130,-92.01
  lines w6: -140,-102.01 145,-102.01 145,97.99 -140,97.99 -140,-102.01
Mechanical 16:
  rectangle: 111,100 119,133
  rectangle: 86,100 94,133
  rectangle: 61,100 69,133
  rectangle: 36,100 44,133
  rectangle: 11,100 19,133
  rectangle: -14,100 -6,133
  rectangle: -39,100 -31,133
  rectangle: -64,100 -56,133
  rectangle: -89,100 -81,133
  rectangle: -114,100 -106,133
  rectangle: -114,-137 -106,-104
  rectangle: -89,-137 -81,-104
  rectangle: -64,-137 -56,-104
  rectangle: -39,-137 -31,-104
  rectangle: -14,-137 -6,-104
  rectangle: 11,-137 19,-104
  rectangle: 36,-137 44,-104
  rectangle: 61,-137 69,-104
  rectangle: 86,-137 94,-104
  rectangle: 111,-137 119,-104

## SSOP24 [mil]
pads (24):
  rect 12x24 smd: 1(-137.5,-150) 2(-112.5,-150) 3(-87.5,-150) 4(-62.5,-150) 5(-37.5,-150) 6(-12.5,-150) 7(12.5,-150) 8(37.5,-150) 9(62.5,-150) 10(87.5,-150) 11(112.5,-150) 12(137.5,-150) 13(137.5,150) 14(112.5,150) 15(87.5,150) 16(62.5,150) 17(37.5,150) 18(12.5,150) 19(-12.5,150) 20(-37.5,150) 21(-62.5,150) 22(-87.5,150) 23(-112.5,150) 24(-137.5,150)
Top Overlay:
  lines w5: -162.5,-25 -162.5,-123.62 162.5,-123.62 162.5,123.62 -162.5,123.62 -162.5,25 ; -162.5,-25 -162.5,25 ; -162.5,-25 ccw(c-162.5,0) -162.5,25

## TFBGA100 [mm]
pads (100):
  rrect100% 0.5x0.5 smd: A1(-3.6,3.6) A2(-2.8,3.6) A3(-2,3.6) A4(-1.2,3.6) A5(-0.4,3.6) A6(0.4,3.6) A7(1.2,3.6) A8(2,3.6) A9(2.8,3.6) A10(3.6,3.6) B1(-3.6,2.8) B2(-2.8,2.8) B3(-2,2.8) B4(-1.2,2.8) B5(-0.4,2.8) B6(0.4,2.8) B7(1.2,2.8) B8(2,2.8) B9(2.8,2.8) B10(3.6,2.8) C1(-3.6,2) C2(-2.8,2) C3(-2,2) C4(-1.2,2) C5(-0.4,2) C6(0.4,2) C7(1.2,2) C8(2,2) C9(2.8,2) C10(3.6,2) D1(-3.6,1.2) D2(-2.8,1.2) D3(-2,1.2) D4(-1.2,1.2) D5(-0.4,1.2) D6(0.4,1.2) D7(1.2,1.2) D8(2,1.2) D9(2.8,1.2) D10(3.6,1.2) E1(-3.6,0.4) E2(-2.8,0.4) E3(-2,0.4) E4(-1.2,0.4) E5(-0.4,0.4) E6(0.4,0.4) E7(1.2,0.4) E8(2,0.4) E9(2.8,0.4) E10(3.6,0.4) F1(-3.6,-0.4) F2(-2.8,-0.4) F3(-2,-0.4) F4(-1.2,-0.4) F5(-0.4,-0.4) F6(0.4,-0.4) F7(1.2,-0.4) F8(2,-0.4) F9(2.8,-0.4) F10(3.6,-0.4) G1(-3.6,-1.2) G2(-2.8,-1.2) G3(-2,-1.2) G4(-1.2,-1.2) G5(-0.4,-1.2) G6(0.4,-1.2) G7(1.2,-1.2) G8(2,-1.2) G9(2.8,-1.2) G10(3.6,-1.2) H1(-3.6,-2) H2(-2.8,-2) H3(-2,-2) H4(-1.2,-2) H5(-0.4,-2) H6(0.4,-2) H7(1.2,-2) H8(2,-2) H9(2.8,-2) H10(3.6,-2) J1(-3.6,-2.8) J2(-2.8,-2.8) J3(-2,-2.8) J4(-1.2,-2.8) J5(-0.4,-2.8) J6(0.4,-2.8) J7(1.2,-2.8) J8(2,-2.8) J9(2.8,-2.8) J10(3.6,-2.8) K1(-3.6,-3.6) K2(-2.8,-3.6) K3(-2,-3.6) K4(-1.2,-3.6) K5(-0.4,-3.6) K6(0.4,-3.6) K7(1.2,-3.6) K8(2,-3.6) K9(2.8,-3.6) K10(3.6,-3.6)
Top Overlay:
  region: 0,0 0.254,0 0.254,0.254 0,0.254
  lines w0.203: -4.4,-4.4 4.375,-4.4 4.375,4.4 -4.4,4.4 -4.4,-4.4
Top Solder:
  circle w0: c-3.6,3.6 r0.225
  circle w0: c-3.6,2.8 r0.225
  circle w0: c-3.6,2 r0.225
  circle w0: c-3.6,1.2 r0.225
  circle w0: c-3.6,0.4 r0.225
  circle w0: c-3.6,-0.4 r0.225
  circle w0: c-3.6,-1.2 r0.225
  circle w0: c-3.6,-2 r0.225
  circle w0: c-3.6,-2.8 r0.225
  circle w0: c-3.6,-3.6 r0.225
  circle w0: c-2.8,3.6 r0.225
  circle w0: c-2.8,2.8 r0.225
  circle w0: c-2.8,2 r0.225
  circle w0: c-2.8,1.2 r0.225
  circle w0: c-2.8,0.4 r0.225
  circle w0: c-2.8,-0.4 r0.225
  circle w0: c-2.8,-1.2 r0.225
  circle w0: c-2.8,-2 r0.225
  circle w0: c-2.8,-2.8 r0.225
  circle w0: c-2.8,-3.6 r0.225
  circle w0: c-2,3.6 r0.225
  circle w0: c-2,2.8 r0.225
  circle w0: c-2,2 r0.225
  circle w0: c-2,1.2 r0.225
  circle w0: c-2,0.4 r0.225
  circle w0: c-2,-0.4 r0.225
  circle w0: c-2,-1.2 r0.225
  circle w0: c-2,-2 r0.225
  circle w0: c-2,-2.8 r0.225
  circle w0: c-2,-3.6 r0.225
  circle w0: c-1.2,3.6 r0.225
  circle w0: c-1.2,2.8 r0.225
  circle w0: c-1.2,2 r0.225
  circle w0: c-1.2,1.2 r0.225
  circle w0: c-1.2,0.4 r0.225
  circle w0: c-1.2,-0.4 r0.225
  circle w0: c-1.2,-1.2 r0.225
  circle w0: c-1.2,-2 r0.225
  circle w0: c-1.2,-2.8 r0.225
  circle w0: c-1.2,-3.6 r0.225
  circle w0: c-0.4,3.6 r0.225
  circle w0: c-0.4,2.8 r0.225
  circle w0: c-0.4,2 r0.225
  circle w0: c-0.4,1.2 r0.225
  circle w0: c-0.4,0.4 r0.225
  circle w0: c-0.4,-0.4 r0.225
  circle w0: c-0.4,-1.2 r0.225
  circle w0: c-0.4,-2 r0.225
  circle w0: c-0.4,-2.8 r0.225
  circle w0: c-0.4,-3.6 r0.225
  circle w0: c0.4,3.6 r0.225
  circle w0: c0.4,2.8 r0.225
  circle w0: c0.4,2 r0.225
  circle w0: c0.4,1.2 r0.225
  circle w0: c0.4,0.4 r0.225
  circle w0: c0.4,-0.4 r0.225
  circle w0: c0.4,-1.2 r0.225
  circle w0: c0.4,-2 r0.225
  circle w0: c0.4,-2.8 r0.225
  circle w0: c0.4,-3.6 r0.225
  circle w0: c1.2,3.6 r0.225
  circle w0: c1.2,2.8 r0.225
  circle w0: c1.2,2 r0.225
  circle w0: c1.2,1.2 r0.225
  circle w0: c1.2,0.4 r0.225
  circle w0: c1.2,-0.4 r0.225
  circle w0: c1.2,-1.2 r0.225
  circle w0: c1.2,-2 r0.225
  circle w0: c1.2,-2.8 r0.225
  circle w0: c1.2,-3.6 r0.225
  circle w0: c2,3.6 r0.225
  circle w0: c2,2.8 r0.225
  circle w0: c2,2 r0.225
  circle w0: c2,1.2 r0.225
  circle w0: c2,0.4 r0.225
  circle w0: c2,-0.4 r0.225
  circle w0: c2,-1.2 r0.225
  circle w0: c2,-2 r0.225
  circle w0: c2,-2.8 r0.225
  circle w0: c2,-3.6 r0.225
  circle w0: c2.8,3.6 r0.225
  circle w0: c2.8,2.8 r0.225
  circle w0: c2.8,2 r0.225
  circle w0: c2.8,1.2 r0.225
  circle w0: c2.8,0.4 r0.225
  circle w0: c2.8,-0.4 r0.225
  circle w0: c2.8,-1.2 r0.225
  circle w0: c2.8,-2 r0.225
  circle w0: c2.8,-2.8 r0.225
  circle w0: c2.8,-3.6 r0.225
  circle w0: c3.6,3.6 r0.225
  circle w0: c3.6,2.8 r0.225
  circle w0: c3.6,2 r0.225
  circle w0: c3.6,1.2 r0.225
  circle w0: c3.6,0.4 r0.225
  circle w0: c3.6,-0.4 r0.225
  circle w0: c3.6,-1.2 r0.225
  circle w0: c3.6,-2 r0.225
  circle w0: c3.6,-2.8 r0.225
  circle w0: c3.6,-3.6 r0.225

## TQFP32-08 [mil]
pads (32):
  rect 50x22 smd: 1(-169,110.24) 2(-169,78.74) 3(-169,47.24) 4(-169,15.75) 5(-169,-15.75) 6(-169,-47.24) 7(-169,-78.74) 8(-169,-110.24) 17(169,-110.24) 18(169,-78.74) 19(169,-47.24) 20(169,-15.75) 21(169,15.75) 22(169,47.24) 23(169,78.74) 24(169,110.24)
  rect 22x50 smd: 9(-110.24,-169) 10(-78.74,-169) 11(-47.24,-169) 12(-15.75,-169) 13(15.75,-169) 14(47.24,-169) 15(78.74,-169) 16(110.24,-169) 25(110.24,169) 26(78.74,169) 27(47.24,169) 28(15.75,169) 29(-15.75,169) 30(-47.24,169) 31(-78.74,169) 32(-110.24,169)
Top Overlay:
  circle w6: c-108,108 r14.14
  lines w6: -137.99,-137.99 137.99,-137.99 137.99,137.99 -124.02,137.99 -137.99,124.02 -137.99,-137.99
Mechanical 16:
  rectangle: -179,101.24 -140,119.24
  rectangle: -179,69.74 -140,87.74
  rectangle: -179,38.24 -140,56.24
  rectangle: -179,6.75 -140,24.75
  rectangle: -179,-24.75 -140,-6.75
  rectangle: -179,-56.24 -140,-38.24
  rectangle: -179,-87.74 -140,-69.74
  rectangle: -179,-119.24 -140,-101.24
  rectangle: -119.24,-179 -101.24,-140
  rectangle: -87.74,-179 -69.74,-140
  rectangle: -56.24,-179 -38.24,-140
  rectangle: -24.75,-179 -6.75,-140
  rectangle: 6.75,-179 24.75,-140
  rectangle: 38.24,-179 56.24,-140
  rectangle: 69.74,-179 87.74,-140
  rectangle: 101.24,-179 119.24,-140
  rectangle: 140,-119.24 179,-101.24
  rectangle: 140,-87.74 179,-69.74
  rectangle: 140,-56.24 179,-38.24
  rectangle: 140,-24.75 179,-6.75
  rectangle: 140,6.75 179,24.75
  rectangle: 140,38.24 179,56.24
  rectangle: 140,69.74 179,87.74
  rectangle: 140,101.24 179,119.24
  rectangle: 101.24,140 119.24,179
  rectangle: 69.74,140 87.74,179
  rectangle: 38.24,140 56.24,179
  rectangle: 6.75,140 24.75,179
  rectangle: -24.75,140 -6.75,179
  rectangle: -56.24,140 -38.24,179
  rectangle: -87.74,140 -69.74,179
  rectangle: -119.24,140 -101.24,179